# Altium schematic symbol library IC REG LDO 200MA 3V SOT23-6.SchLib: 1 symbol
Pins are listed as number, name and electrical type; pins without a type are passive.

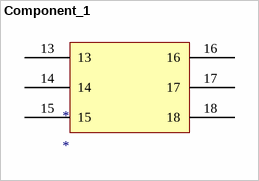
[diagram p0: symbol Component_1]

## Component_1
designator *
pins: 13, 14, 15, 16, 17, 18